# Altium integrated library 1736175.IntLib: 1 symbol
Pins are listed as number, name and electrical type; pins without a type are passive.

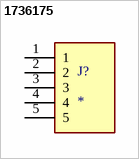
[diagram p0: symbol 1736175]

## 1736175
designator J?
Pluggable Terminal Blocks MSTBA 2,5/ 5-G- 5,08 VPE250; MF: Phoenix Contact; MP: 1736175; SnapEDA_Link: https://www.snapeda.com/parts/1736175/Phoenix+Contact/view-part/?ref=snap; Package: None; Value: *; Check_prices: https://www.snapeda.com/parts/1736175/Phoenix+Contact/view-part/?ref=eda
footprint PHOENIX_1736175
pins: 1, 2, 3, 4, 5